# Altium footprint library FG16X5R1E336MRT06.PcbLib: 1 footprints
Each footprint in its own frame and in the unit in brackets; x right, y up, seen from the top. Pads: shape width x height; smd on the part's side, far side on the other; paste and mask are expansions set on the pad; w line width, h text height; cw(c..) or ccw(c..) is an arc to the next point about the centre after c.
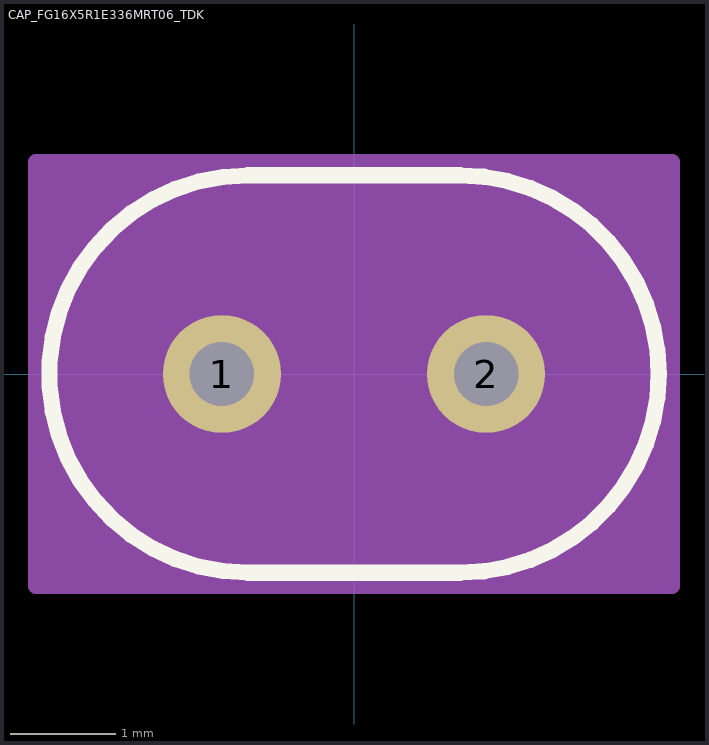
[diagram p0: the footprint, top view; thin cyan lines are the x and y axes]

## CAP_FG16X5R1E336MRT06_TDK [mil]
pads (2):
  round 44 hole 24 paste-22 mask+0: 1(-49.21,0) 2(49.21,0)
Top Overlay:
  lines w6: -39.5,-74 39.5,-74 ccw(c39.5,0) 113.5,0 ccw(c39.5,0) 39.5,74 -39.5,74 ccw(c-39.5,0) -39.5,-74
  text ".Designator" at -137.5,-25 h50
Mechanical 13:
  lines w1: -39.5,-69 39.5,-69 ccw(c39.5,0) 39.5,69 -39.5,69 ccw(c-39.5,0) -39.5,-69
  text ".Designator" at -137.5,-25 h50
Mechanical 15:
  region: 118.5,-79 -118.5,-79 -118.5,79 118.5,79
  lines w6: -118.5,-79 -118.5,79 118.5,79 118.5,-79 -118.5,-79
3D body "CAP_FG16X5R1E336MRT06_TDK.step": height 235.98, standoff -139.84, extent -59.29,-69.02 157.72,69.02